# EAGLE library part AVR32UC3A-TQFP100 (library avr32uc)
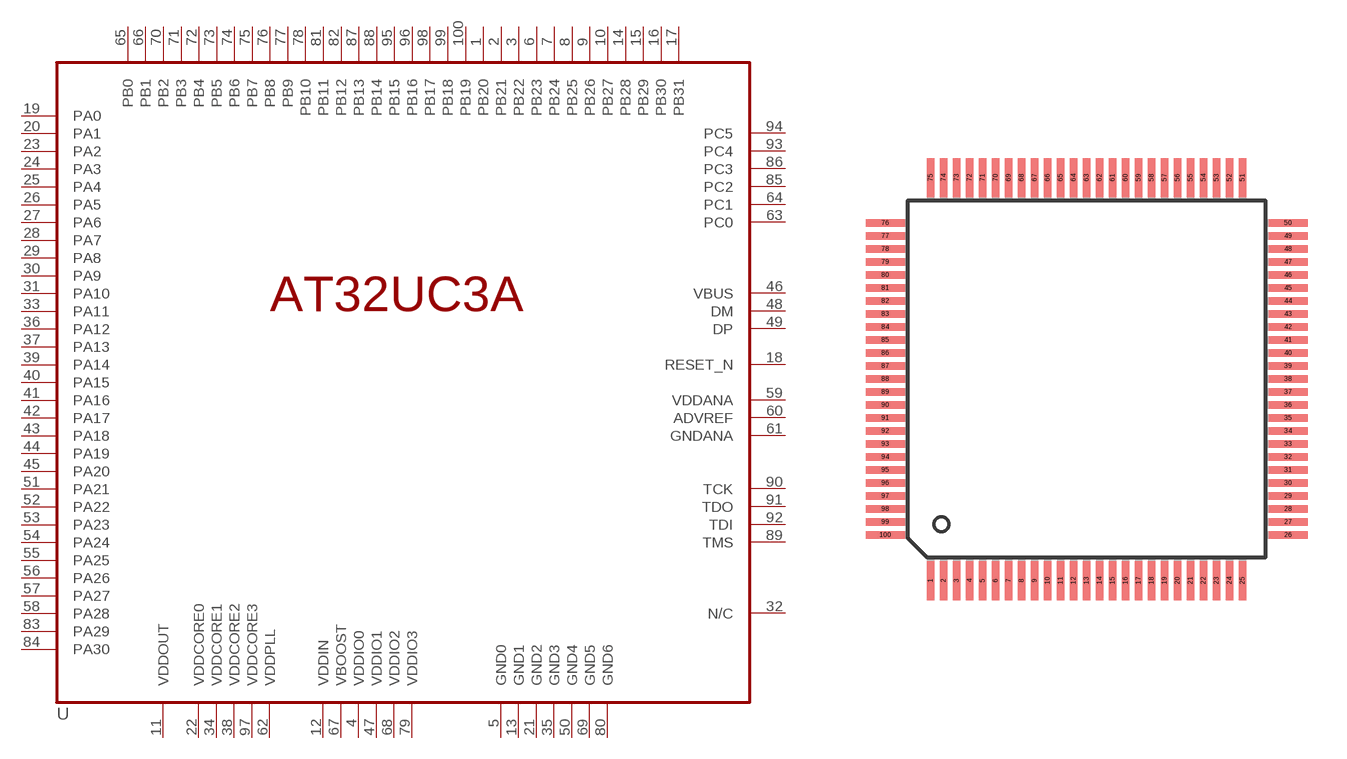
[diagram p1: symbol with the pads of TQFP100; footprint TQFP100]

Designator prefix -

## AVR32UC3A-TQFP100  [TQFP100]
1  PB20
2  PB21
3  PB22
4  VDDIO0
5  GND0
6  PB23
7  PB24
8  PB25
9  PB26
10  PB27
11  VDDOUT
12  VDDIN
13  GND1
14  PB28
15  PB29
16  PB30
17  PB31
18  RESET_N
19  PA0
20  PA1
21  GND2
22  VDDCORE0
23  PA2
24  PA3
25  PA4
26  PA5
27  PA6
28  PA7
29  PA8
30  PA9
31  PA10
32  N/C
33  PA11
34  VDDCORE1
35  GND3
36  PA12
37  PA13
38  VDDCORE2
39  PA14
40  PA15
41  PA16
42  PA17
43  PA18
44  PA19
45  PA20
46  VBUS
47  VDDIO1
48  DM
49  DP
50  GND4
51  PA21
52  PA22
53  PA23
54  PA24
55  PA25
56  PA26
57  PA27
58  PA28
59  VDDANA
60  ADVREF
61  GNDANA
62  VDDPLL
63  PC0
64  PC1
65  PB0
66  PB1
67  VBOOST
68  VDDIO2
69  GND5
70  PB2
71  PB3
72  PB4
73  PB5
74  PB6
75  PB7
76  PB8
77  PB9
78  PB10
79  VDDIO3
80  GND6
81  PB11
82  PB12
83  PA29
84  PA30
85  PC2
86  PC3
87  PB13
88  PB14
89  TMS
90  TCK
91  TDO
92  TDI
93  PC4
94  PC5
95  PB15
96  PB16
97  VDDCORE3
98  PB17
99  PB18
100  PB19

## Footprint TQFP100 (pad centres in mm)
smd 0.27 x 1.5: 1 -6,-7.75; 2 -5.5,-7.75; 3 -5,-7.75; 4 -4.5,-7.75; 5 -4,-7.75; 6 -3.5,-7.75; 7 -3,-7.75; 8 -2.5,-7.75; 9 -2,-7.75; 10 -1.5,-7.75; 11 -1,-7.75; 12 -0.5,-7.75; 13 0,-7.75; 14 0.5,-7.75; 15 1,-7.75; 16 1.5,-7.75; 17 2,-7.75; 18 2.5,-7.75; 19 3,-7.75; 20 3.5,-7.75; 21 4,-7.75; 22 4.5,-7.75; 23 5,-7.75; 24 5.5,-7.75; 25 6,-7.75; 51 6,7.75; 52 5.5,7.75; 53 5,7.75; 54 4.5,7.75; 55 4,7.75; 56 3.5,7.75; 57 3,7.75; 58 2.5,7.75; 59 2,7.75; 60 1.5,7.75; 61 1,7.75; 62 0.5,7.75; 63 0,7.75; 64 -0.5,7.75; 65 -1,7.75; 66 -1.5,7.75; 67 -2,7.75; 68 -2.5,7.75; 69 -3,7.75; 70 -3.5,7.75; 71 -4,7.75; 72 -4.5,7.75; 73 -5,7.75; 74 -5.5,7.75; 75 -6,7.75
smd 1.5 x 0.27: 26 7.75,-6; 27 7.75,-5.5; 28 7.75,-5; 29 7.75,-4.5; 30 7.75,-4; 31 7.75,-3.5; 32 7.75,-3; 33 7.75,-2.5; 34 7.75,-2; 35 7.75,-1.5; 36 7.75,-1; 37 7.75,-0.5; 38 7.75,0; 39 7.75,0.5; 40 7.75,1; 41 7.75,1.5; 42 7.75,2; 43 7.75,2.5; 44 7.75,3; 45 7.75,3.5; 46 7.75,4; 47 7.75,4.5; 48 7.75,5; 49 7.75,5.5; 50 7.75,6; 76 -7.75,6; 77 -7.75,5.5; 78 -7.75,5; 79 -7.75,4.5; 80 -7.75,4; 81 -7.75,3.5; 82 -7.75,3; 83 -7.75,2.5; 84 -7.75,2; 85 -7.75,1.5; 86 -7.75,1; 87 -7.75,0.5; 88 -7.75,0; 89 -7.75,-0.5; 90 -7.75,-1; 91 -7.75,-1.5; 92 -7.75,-2; 93 -7.75,-2.5; 94 -7.75,-3; 95 -7.75,-3.5; 96 -7.75,-4; 97 -7.75,-4.5; 98 -7.75,-5; 99 -7.75,-5.5; 100 -7.75,-6